# EAGLE library part WT51822-S4AT (library WT51822-S4AT)
WT51822-S4AT is a high performance, low power radio transmit and receive system module use Nordic BLE 4.1 nRF51822 as the controller chips.
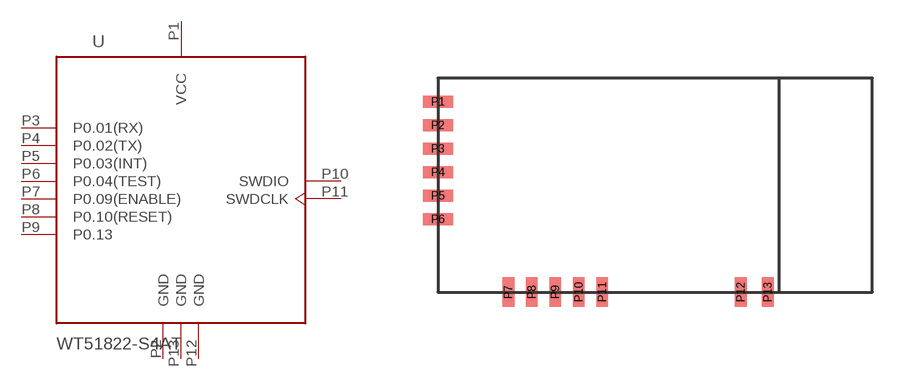
[diagram p0: symbol with the pads of WT51822-S4AT; footprint WT51822-S4AT]

Designator prefix U

## WT51822-S4ATMODULE  [WT51822-S4AT]
P1  VCC  pas
P2  GND  pas
P3  P0.01(RX)
P4  P0.02(TX)
P5  P0.03(INT)
P6  P0.04(TEST)
P7  P0.09(ENABLE)
P8  P0.10(RESET)
P9  P0.13
P10  SWDIO
P11  SWDCLK  in
P12  GND  pas
P13  GND  pas

## Footprint WT51822-S4AT (pad centres in mm)
WT51822-S4AT is a high performance ,low power radio transmit and receive system module use Nordic BLE 4.1 nRF51822 as the controller chips.
smd 1.27 x 0.5: P1 0,8.1; P2 0,7.1; P3 0,6.1; P4 0,5.1; P5 0,4.1; P6 0,3.1
smd 0.5 x 1.27: P7 3,0; P8 4,0; P9 5,0; P10 6,0; P11 7,0; P12 12.9,0; P13 14.05,0